# Altium footprint library Conn_Molex_0480372200_eec_0.PcbLib: 1 footprints
Each footprint in its own frame and in the unit in brackets; x right, y up, seen from the top. Pads: shape width x height; smd on the part's side, far side on the other; paste and mask are expansions set on the pad; w line width, h text height; cw(c..) or ccw(c..) is an arc to the next point about the centre after c.
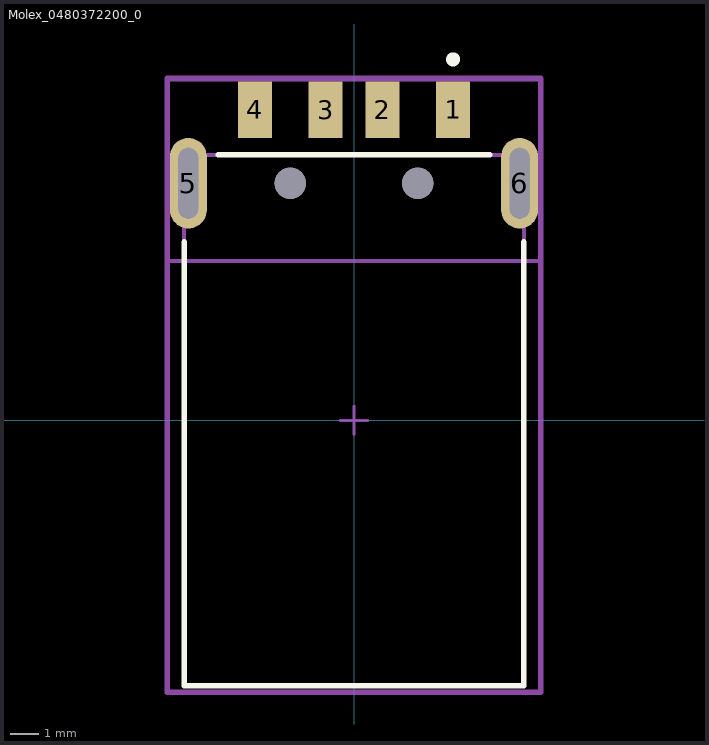
[diagram p0: the footprint, top view; thin cyan lines are the x and y axes]

## Molex_0480372200_0 [mm]
pads (8):
  rect 1.2x2 smd paste+0 mask+0: 1(3.5,10.975) 2(1,10.975) 3(-1,10.975) 4(-3.5,10.975)
  oval 1.3x3.2 hole 2.5 slot 0.7 at 0 deg paste-1000 mask+0: 5(-5.85,8.375) 6(5.85,8.375)
  round 1.1 hole 1.1 unplated paste-1000 mask+0: ""(-2.25,8.375) ""(2.25,8.375)
Top Overlay:
  circle w0.25: c3.5,12.75 r0.125
  lines w0.2: -6,6.3 -6,-9.375 6,-9.375 6,6.3 ; -4.8,9.375 4.8,9.375
Mechanical 10:
  lines w0.2: -6.6,-9.6 6.6,-9.6 6.6,12.075 -6.6,12.075 -6.6,-9.6
  text ".Designator" at 0,1.238 h1
Mechanical 12:
  lines w0.15: -6.6,5.625 6.6,5.625 ; -6,-9.375 6,-9.375 6,9.375 -6,9.375 -6,-9.375
Mechanical 15:
  lines w0.1: -0.5,0 0.5,0 ; 0,-0.5 0,0.5
  lines w0.2: -6.6,-9.6 6.6,-9.6 6.6,12.075 -6.6,12.075 -6.6,-9.6
3D body "3dmodel.step": height 0.25, standoff 0, extent -6.6,-9.6 6.6,12.075